# EAGLE library part EEPROM_EEPROM (library VGA_sound)
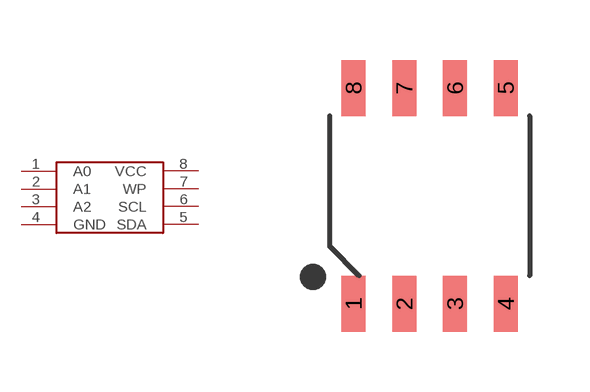
[diagram p0: symbol with the pads of EEPROM_SOIC-8; footprint EEPROM_SOIC-8]

Designator prefix IC

## EEPROM_EEPROM  [EEPROM_SOIC-8]
1  A0
2  A1
3  A2
4  GND
5  SDA
6  SCL
7  WP
8  VCC

## Footprint EEPROM_SOIC-8 (pad centres in mm)
smd 0.6 x 1.4: 1 -1.905,-2.7; 2 -0.635,-2.7; 3 0.635,-2.7; 4 1.905,-2.7; 5 1.905,2.7; 6 0.635,2.7; 7 -0.635,2.7; 8 -1.905,2.7